# EAGLE library part ATSAME54N20A-AUT (library SamacSys_Parts)
ARM Microcontrollers - MCU 120MHZ 1024KB FLASH 100 TQFP PKG IN 85C Source: Datasheet <https://www.mouser.com/ds/2/268/60001507A-1130176.pdf>
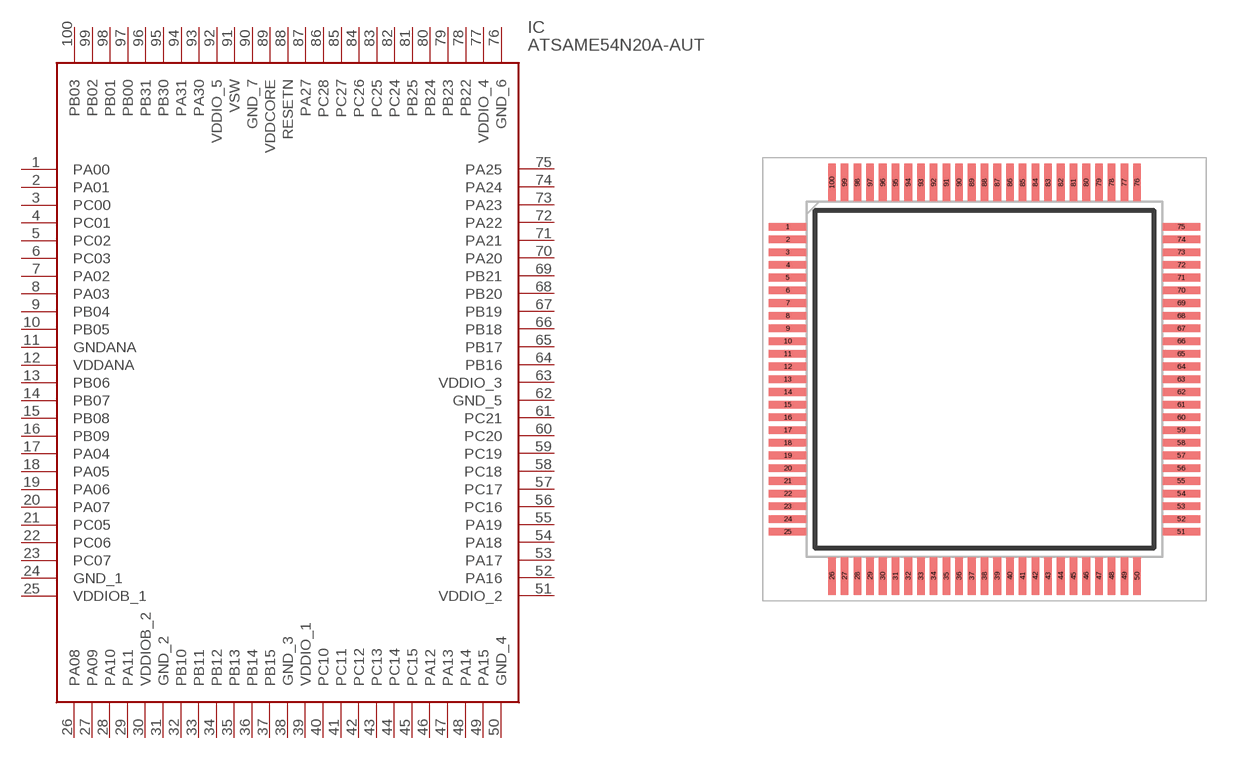
[diagram p5: symbol with the pads of QFP50P1600X1600X120-100N; footprint QFP50P1600X1600X120-100N]

Designator prefix IC

## ATSAME54N20A-AUT (DESCRIPTION: ARM Microcontrollers - MCU 120MHZ 1024KB FLASH 100 TQFP PKG IN 85C; HEIGHT: 1.2mm; MANUFACTURER_NAME: Microchip; MANUFACTURER_PART_NUMBER: ATSAME54N20A-AUT; MOUSER_PART_NUMBER: 556-ATSAME54N20AAUT; MOUSER_PRICE-STOCK: https://www.mouser.co.uk/ProductDetail/Microchip-Technology/ATSAME54N20A-AUT?qs=HXFqYaX1Q2wziE5NRG3J9w%3D%3D)  [QFP50P1600X1600X120-100N]
1  PA00
2  PA01
3  PC00
4  PC01
5  PC02
6  PC03
7  PA02
8  PA03
9  PB04
10  PB05
11  GNDANA
12  VDDANA
13  PB06
14  PB07
15  PB08
16  PB09
17  PA04
18  PA05
19  PA06
20  PA07
21  PC05
22  PC06
23  PC07
24  GND_1
25  VDDIOB_1
26  PA08
27  PA09
28  PA10
29  PA11
30  VDDIOB_2
31  GND_2
32  PB10
33  PB11
34  PB12
35  PB13
36  PB14
37  PB15
38  GND_3
39  VDDIO_1
40  PC10
41  PC11
42  PC12
43  PC13
44  PC14
45  PC15
46  PA12
47  PA13
48  PA14
49  PA15
50  GND_4
51  VDDIO_2
52  PA16
53  PA17
54  PA18
55  PA19
56  PC16
57  PC17
58  PC18
59  PC19
60  PC20
61  PC21
62  GND_5
63  VDDIO_3
64  PB16
65  PB17
66  PB18
67  PB19
68  PB20
69  PB21
70  PA20
71  PA21
72  PA22
73  PA23
74  PA24
75  PA25
76  GND_6
77  VDDIO_4
78  PB22
79  PB23
80  PB24
81  PB25
82  PC24
83  PC25
84  PC26
85  PC27
86  PC28
87  PA27
88  RESETN
89  VDDCORE
90  GND_7
91  VSW
92  VDDIO_5
93  PA30
94  PA31
95  PB30
96  PB31
97  PB00
98  PB01
99  PB02
100  PB03

## Footprint QFP50P1600X1600X120-100N (pad centres in mm)
100-Lead Plastic Thin Quad Flatpack (PF) 14x14x1 mm Body
smd 1.475 x 0.3: 1 -7.738,6; 2 -7.738,5.5; 3 -7.738,5; 4 -7.738,4.5; 5 -7.738,4; 6 -7.738,3.5; 7 -7.738,3; 8 -7.738,2.5; 9 -7.738,2; 10 -7.738,1.5; 11 -7.738,1; 12 -7.738,0.5; 13 -7.738,0; 14 -7.738,-0.5; 15 -7.738,-1; 16 -7.738,-1.5; 17 -7.738,-2; 18 -7.738,-2.5; 19 -7.738,-3; 20 -7.738,-3.5; 21 -7.738,-4; 22 -7.738,-4.5; 23 -7.738,-5; 24 -7.738,-5.5; 25 -7.738,-6; 51 7.738,-6; 52 7.738,-5.5; 53 7.738,-5; 54 7.738,-4.5; 55 7.738,-4; 56 7.738,-3.5; 57 7.738,-3; 58 7.738,-2.5; 59 7.738,-2; 60 7.738,-1.5; 61 7.738,-1; 62 7.738,-0.5; 63 7.738,0; 64 7.738,0.5; 65 7.738,1; 66 7.738,1.5; 67 7.738,2; 68 7.738,2.5; 69 7.738,3; 70 7.738,3.5; 71 7.738,4; 72 7.738,4.5; 73 7.738,5; 74 7.738,5.5; 75 7.738,6
smd 0.3 x 1.475: 26 -6,-7.738; 27 -5.5,-7.738; 28 -5,-7.738; 29 -4.5,-7.738; 30 -4,-7.738; 31 -3.5,-7.738; 32 -3,-7.738; 33 -2.5,-7.738; 34 -2,-7.738; 35 -1.5,-7.738; 36 -1,-7.738; 37 -0.5,-7.738; 38 0,-7.738; 39 0.5,-7.738; 40 1,-7.738; 41 1.5,-7.738; 42 2,-7.738; 43 2.5,-7.738; 44 3,-7.738; 45 3.5,-7.738; 46 4,-7.738; 47 4.5,-7.738; 48 5,-7.738; 49 5.5,-7.738; 50 6,-7.738; 76 6,7.738; 77 5.5,7.738; 78 5,7.738; 79 4.5,7.738; 80 4,7.738; 81 3.5,7.738; 82 3,7.738; 83 2.5,7.738; 84 2,7.738; 85 1.5,7.738; 86 1,7.738; 87 0.5,7.738; 88 0,7.738; 89 -0.5,7.738; 90 -1,7.738; 91 -1.5,7.738; 92 -2,7.738; 93 -2.5,7.738; 94 -3,7.738; 95 -3.5,7.738; 96 -4,7.738; 97 -4.5,7.738; 98 -5,7.738; 99 -5.5,7.738; 100 -6,7.738